# EAGLE library part FT2232H (library Marvin)
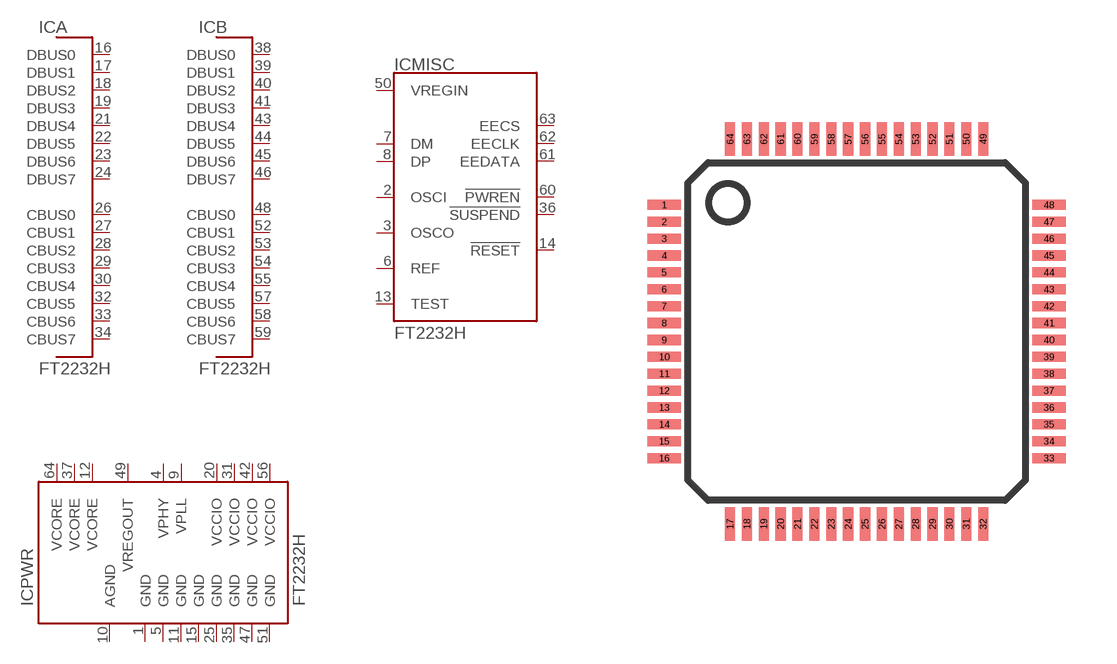
[diagram p5: symbol with the pads of LQFP64-ST; footprint LQFP64-ST]

Designator prefix IC; gates A=FT2232H-PORT B=FT2232H-PORT MISC=FT2232H-MISC PWR=FT2232H-PWR

## FT2232H  [LQFP64-ST]
1  PWR:GND
2  MISC:OSCI
3  MISC:OSCO
4  PWR:VPHY
5  PWR:GND
6  MISC:REF
7  MISC:DM
8  MISC:DP
9  PWR:VPLL
10  PWR:AGND
11  PWR:GND
12  PWR:VCORE
13  MISC:TEST
14  MISC:!RESET
15  PWR:GND
16  A:DBUS0
17  A:DBUS1
18  A:DBUS2
19  A:DBUS3
20  PWR:VCCIO
21  A:DBUS4
22  A:DBUS5
23  A:DBUS6
24  A:DBUS7
25  PWR:GND
26  A:CBUS0
27  A:CBUS1
28  A:CBUS2
29  A:CBUS3
30  A:CBUS4
31  PWR:VCCIO
32  A:CBUS5
33  A:CBUS6
34  A:CBUS7
35  PWR:GND
36  MISC:!SUSPEND
37  PWR:VCORE
38  B:DBUS0
39  B:DBUS1
40  B:DBUS2
41  B:DBUS3
42  PWR:VCCIO
43  B:DBUS4
44  B:DBUS5
45  B:DBUS6
46  B:DBUS7
47  PWR:GND
48  B:CBUS0
49  PWR:VREGOUT
50  MISC:VREGIN
51  PWR:GND
52  B:CBUS1
53  B:CBUS2
54  B:CBUS3
55  B:CBUS4
56  PWR:VCCIO
57  B:CBUS5
58  B:CBUS6
59  B:CBUS7
60  MISC:!PWREN
61  MISC:EEDATA
62  MISC:EECLK
63  MISC:EECS
64  PWR:VCORE

## Footprint LQFP64-ST (pad centres in mm)
smd 1 x 0.3: 1 -5.7,3.75; 2 -5.7,3.25; 3 -5.7,2.75; 4 -5.7,2.25; 5 -5.7,1.75; 6 -5.7,1.25; 7 -5.7,0.75; 8 -5.7,0.25; 9 -5.7,-0.25; 10 -5.7,-0.75; 11 -5.7,-1.25; 12 -5.7,-1.75; 13 -5.7,-2.25; 14 -5.7,-2.75; 15 -5.7,-3.25; 16 -5.7,-3.75; 33 5.7,-3.75; 34 5.7,-3.25; 35 5.7,-2.75; 36 5.7,-2.25; 37 5.7,-1.75; 38 5.7,-1.25; 39 5.7,-0.75; 40 5.7,-0.25; 41 5.7,0.25; 42 5.7,0.75; 43 5.7,1.25; 44 5.7,1.75; 45 5.7,2.25; 46 5.7,2.75; 47 5.7,3.25; 48 5.7,3.75
smd 0.3 x 1: 17 -3.75,-5.7; 18 -3.25,-5.7; 19 -2.75,-5.7; 20 -2.25,-5.7; 21 -1.75,-5.7; 22 -1.25,-5.7; 23 -0.75,-5.7; 24 -0.25,-5.7; 25 0.25,-5.7; 26 0.75,-5.7; 27 1.25,-5.7; 28 1.75,-5.7; 29 2.25,-5.7; 30 2.75,-5.7; 31 3.25,-5.7; 32 3.75,-5.7; 49 3.75,5.7; 50 3.25,5.7; 51 2.75,5.7; 52 2.25,5.7; 53 1.75,5.7; 54 1.25,5.7; 55 0.75,5.7; 56 0.25,5.7; 57 -0.25,5.7; 58 -0.75,5.7; 59 -1.25,5.7; 60 -1.75,5.7; 61 -2.25,5.7; 62 -2.75,5.7; 63 -3.25,5.7; 64 -3.75,5.7